# EAGLE library part ATTINY2313A (library STAC)
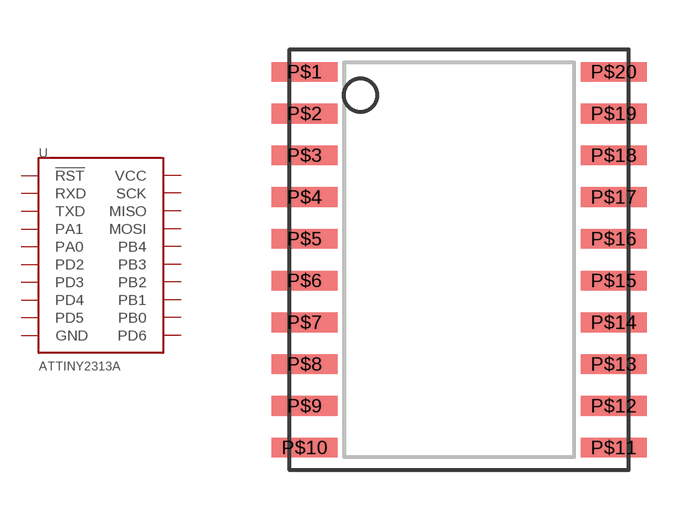
[diagram p12: symbol with the pads of SOIC-20; footprint SOIC-20]

Designator prefix U

## ATTINY2313A  [SOIC-20]
P$1  !RST
P$2  RXD
P$3  TXD
P$4  PA1
P$5  PA0
P$6  PD2
P$7  PD3
P$8  PD4
P$9  PD5
P$10  GND
P$11  PD6
P$12  PB0
P$13  PB1
P$14  PB2
P$15  PB3
P$16  PB4
P$17  MOSI
P$18  MISO
P$19  SCK
P$20  VCC

## Footprint SOIC-20 (pad centres in mm)
smd 2 x 0.6: P$1 -4.7,5.715; P$2 -4.7,4.445; P$3 -4.7,3.175; P$4 -4.7,1.905; P$5 -4.7,0.635; P$6 -4.7,-0.635; P$7 -4.7,-1.905; P$8 -4.7,-3.175; P$9 -4.7,-4.445; P$10 -4.7,-5.714; P$11 4.7,-5.715; P$12 4.7,-4.445; P$13 4.7,-3.175; P$14 4.7,-1.905; P$15 4.7,-0.635; P$16 4.7,0.635; P$17 4.7,1.905; P$18 4.7,3.175; P$19 4.7,4.445; P$20 4.7,5.715